# Altium footprint library VESC_BMS.PcbLib: 78 footprints (part 3 of 5)
Each footprint in its own frame and in the unit in brackets; x right, y up, seen from the top. Pads: shape width x height; smd on the part's side, far side on the other; paste and mask are expansions set on the pad; w line width, h text height; cw(c..) or ccw(c..) is an arc to the next point about the centre after c.
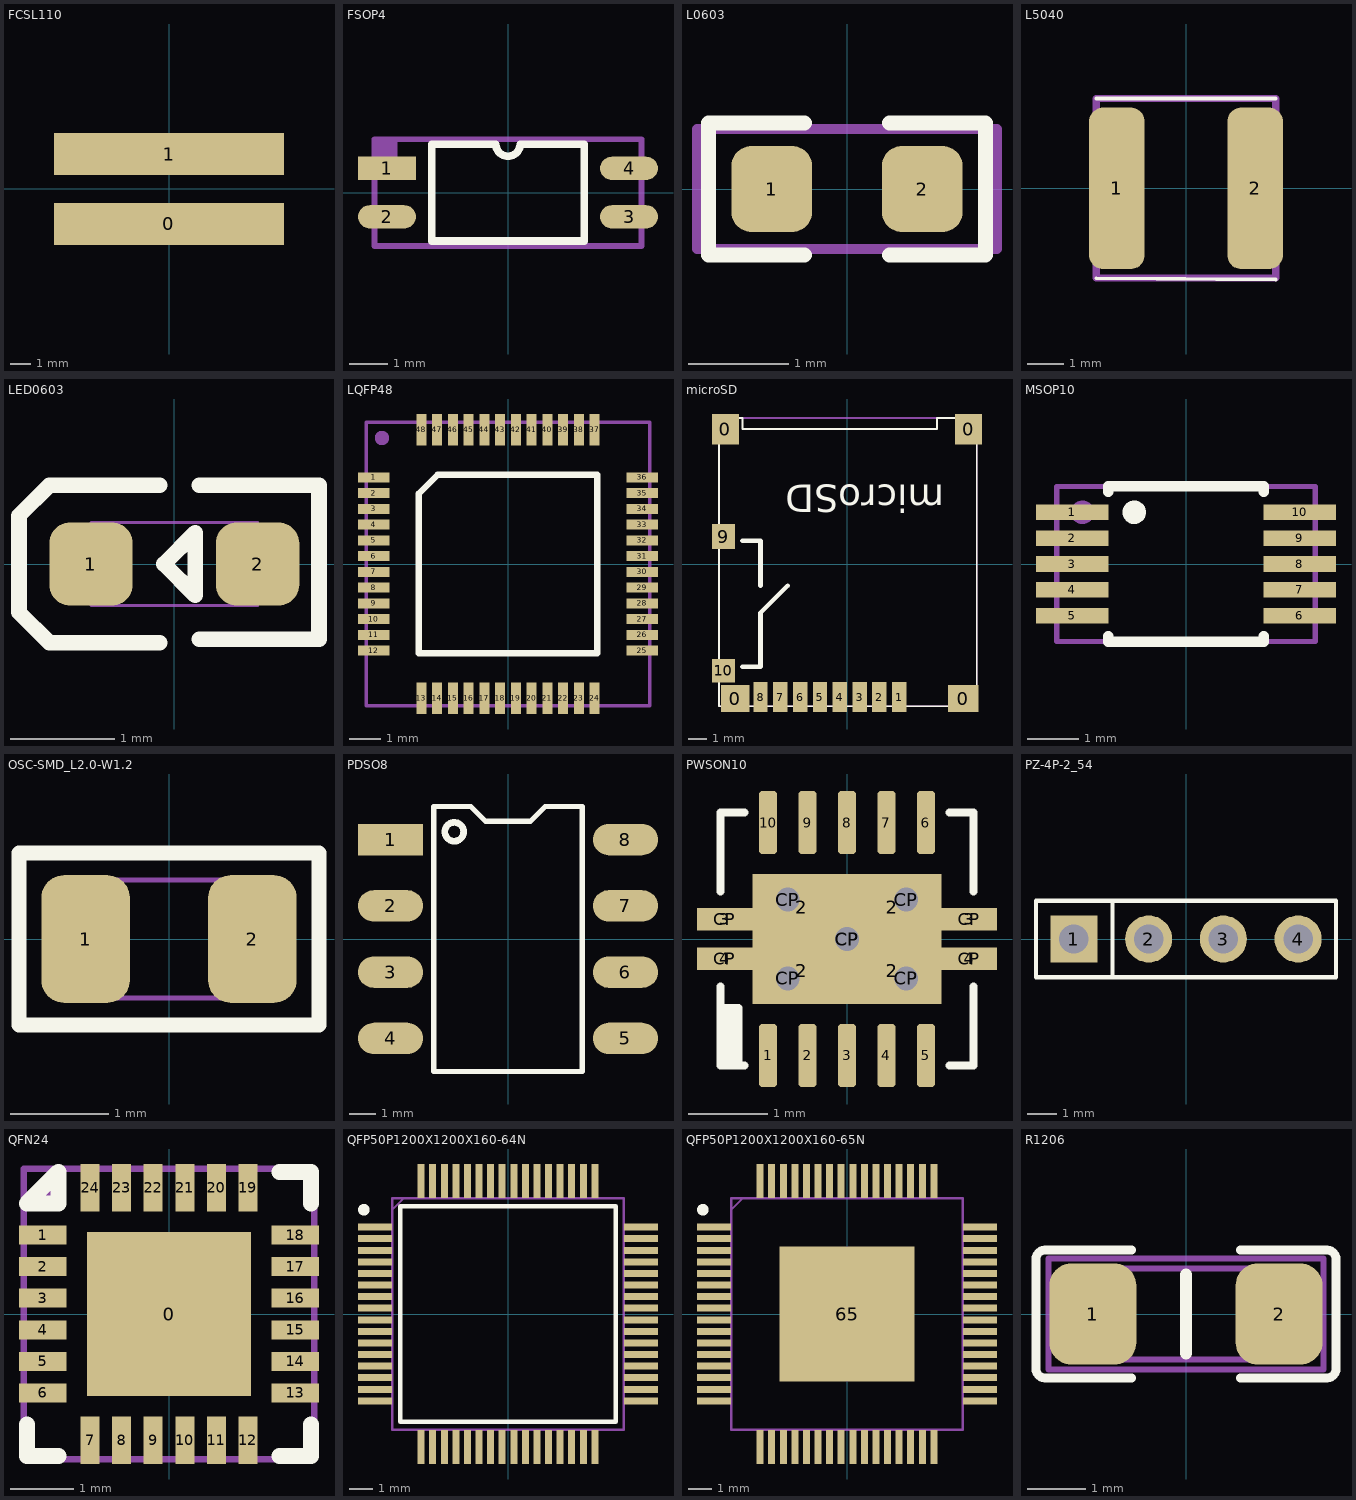
[diagram p2: the footprints below, top view; thin cyan lines are the x and y axes]

## FCSL110 [mm] "Current shunt"
height 0.5
pads (2):
  rect 11.2x2.05 smd: 0(0,-1.7) 1(0,1.7)
3D body: height 0.5, standoff 0, extent -5.4,-2.5 5.4,-1.5
3D body: height 0.5, standoff 0, extent -5.4,1.5 5.4,2.5
3D body: height 0.4, standoff 0.1, extent -5.5,-2.4 5.5,2.4

## FSOP4 [mm]
pads (4):
  rect 1.52x0.61 smd: 1(-3.175,0.635)
  oval 1.52x0.61 smd: 2(-3.175,-0.635) 3(3.175,-0.635) 4(3.175,0.635)
Top Overlay:
  lines w0.2: -2,-1.27 -2,1.27 -0.318,1.27 ccw(c0,1.27) 0.318,1.27 2,1.27 2,-1.27 -2,-1.27
Mechanical 29:
  rectangle: -3.5,0.8 -2.9,1.4
  lines w0.15: -3.5,-1.4 -3.5,1.4 3.5,1.4 3.5,-1.4 -3.5,-1.4
  text ".designator" at -3,-0.4 h1.52
3D body "User Library-SOP-4-1.step": height 2.1, standoff 0, extent -3.5,-1.4 3.5,1.4

## L0603 [mil]
height 53.15
pads (2):
  rrect50% 31.7x34 smd: 1(-29.6,0) 2(29.6,0)
Top Overlay:
  lines w5.9: -16.8,-26 -54.5,-26 -54.5,26 -16.8,26 ; 16.8,-26 54.5,-26 54.5,26 16.8,26
Mechanical 29:
  lines w3.94: -59.06,-23.62 59.06,-23.62 59.06,23.62 -59.06,23.62 -59.06,-23.62
  text ".Designator" at -55.12,-15.75 h31.5
3D body: height 17.72, standoff 0, extent -37.4,-17.72 -23.62,17.72
3D body: height 17.72, standoff 0, extent 23.62,-17.72 37.4,17.72
3D body: height 15.75, standoff 1.97, extent -35.43,-15.75 35.43,15.75
3D body: height 16.14, standoff 15.75, extent -10.24,-13.39 10.63,14.17

## L5040 [mm]
pads (2):
  rrect50% 1.55x4.5 smd: 1(-1.925,0) 2(1.925,0)
Top Overlay:
  lines w0.1: -2.5,-2.5 2.5,-2.54 ; -2.5,2.5 2.5,2.5
Mechanical 1:
  lines w0.2: -2.5,-2.5 2.5,-2.5 2.5,2.5 -2.5,2.5 -2.5,-2.5
3D body "74404054221.stp": height 4.01, standoff 0.01, extent -2.5,-2.52 2.5,2.48

## LED0603 [mil] "LED0603"
pads (2):
  rrect50% 31.5x31.5 smd: 1(-31.5,0) 2(31.5,0)
Top Overlay:
  lines w5.9: -5.5,-29.8 -47.2,-29.8 -58.7,-18.3 -58.7,18.3 -47.2,29.8 -5.5,29.8 ; 9.4,-28.5 54.7,-28.5 54.7,29.8 9.4,29.8 ; -3.9,0 7.9,-11.8 7.9,11.8 -3.9,0
Mechanical 1:
  lines w1: -31.5,-15.7 -31.5,15.7 31.5,15.7 31.5,-15.7 -31.5,-15.7
3D body "0603 Chip SMD LED (1.6x0.8mm).STEP": height 21.65, standoff -0.98, extent -31.5,-15.75 31.5,15.75

## LQFP48 [mm]
pads (48):
  rect 1x0.32 smd: 1(-4.26,2.75) 2(-4.26,2.25) 3(-4.26,1.75) 4(-4.26,1.25) 5(-4.26,0.75) 6(-4.26,0.25) 7(-4.26,-0.25) 8(-4.26,-0.75) 9(-4.26,-1.25) 10(-4.26,-1.75) 11(-4.26,-2.25) 12(-4.26,-2.75) 25(4.26,-2.75) 26(4.26,-2.25) 27(4.26,-1.75) 28(4.26,-1.25) 29(4.26,-0.75) 30(4.26,-0.25) 31(4.26,0.25) 32(4.26,0.75) 33(4.26,1.25) 34(4.26,1.75) 35(4.26,2.25) 36(4.26,2.75)
  rect 0.32x1 smd: 13(-2.75,-4.26) 14(-2.25,-4.26) 15(-1.75,-4.26) 16(-1.25,-4.26) 17(-0.75,-4.26) 18(-0.25,-4.26) 19(0.25,-4.26) 20(0.75,-4.26) 21(1.25,-4.26) 22(1.75,-4.26) 23(2.25,-4.26) 24(2.75,-4.26) 37(2.75,4.26) 38(2.25,4.26) 39(1.75,4.26) 40(1.25,4.26) 41(0.75,4.26) 42(0.25,4.26) 43(-0.25,4.26) 44(-0.75,4.26) 45(-1.25,4.26) 46(-1.75,4.26) 47(-2.25,4.26) 48(-2.75,4.26)
Top Overlay:
  lines w0.2: -2.83,-2.83 2.83,-2.83 2.83,2.83 -2.235,2.83 -2.83,2.235 -2.83,-2.83
Mechanical 29:
  circle w0.254: c-4,4 r0.1
  lines w0.1: -4.5,-4.5 4.5,-4.5 4.5,4.5 -4.5,4.5 -4.5,-4.5
  text ".Designator" at -1.7,-0.4 h0.8
3D body "User Library-LQFP48.step": height 1.52, standoff 0.02, extent -4.5,-4.5 4.5,4.5

## microSD [mm]
pads (14):
  rect 1.5x1.7 smd: 0(-6.75,7.475) 0(6.75,7.475)
  rect 1.6x1.5 smd: 0(-6.2,-7.475)
  rect 1.7x1.5 smd: 0(6.45,-7.475)
  rect 0.8x1.68 smd: 1(2.9,-7.385) 2(1.8,-7.385) 3(0.7,-7.385) 4(-0.4,-7.385) 5(-1.5,-7.385) 6(-2.6,-7.385) 7(-3.7,-7.385) 8(-4.8,-7.385)
  rect 1.29x1.4 smd: 9(-6.855,1.525)
  rect 1.29x1.3 smd: 10(-6.855,-5.925)
Top Overlay:
  lines w0.1: -7.1,-7.9 -7.1,8.1 -5.8,8.1 -5.8,7.5 5,7.5 5,8.1 7.2,8.1 7.2,-7.9 -7.1,-7.9
  lines w0.254: -5.8,-5.7 -4.8,-5.7 -4.8,-5.2 -4.8,-2.7 ; -5.8,1.3 -4.8,1.3 -4.8,-1.2 ; -3.3,-1.2 -4.8,-2.7 ; -4.8,-2.7 -4.8,-2.7
  text "microSD" at 5.4,4.4 h1.52
Mechanical 29:
  lines w0.1: -7.1,-7.9 -7.1,8.1 7.2,8.1 7.2,-7.9 -7.1,-7.9
  text ".Designator" at -2.9,0.2 h0.8
3D body "5027740891.stp": height 1.81, standoff 0.01, extent -7.105,-7.915 7.195,8.085

## MSOP10 [mm] "Mini small outline package"
pads (10):
  rect 1.4x0.3 smd: 1(-2.2,1) 2(-2.2,0.5) 3(-2.2,0) 4(-2.2,-0.5) 5(-2.2,-1) 6(2.2,-1) 7(2.2,-0.5) 8(2.2,0) 9(2.2,0.5) 10(2.2,1)
Top Overlay:
  circle w0.254: c-1,1 r0.1
  lines w0.2: -1.5,-1.4 -1.5,-1.5 1.5,-1.5 1.5,-1.4 ; -1.5,1.4 -1.5,1.5 1.5,1.5 1.5,1.4
Mechanical 29:
  circle w0.254: c-2,1 r0.1
  lines w0.1: -2.5,-1.5 -2.5,1.5 2.5,1.5 2.5,-1.5 -2.5,-1.5
  text ".Designator" at -2.25,-0.25 h0.8
3D body "User Library-msop-10.step": height 1.15, standoff 0, extent -2.45,-1.5 2.45,1.5

## OSC-SMD_L2.0-W1.2 [mm]
pads (2):
  rrect50% 0.9x1.3 smd: 1(-0.85,0) 2(0.85,0)
Top Overlay:
  lines w0.152: -1.529,-0.879 1.529,-0.879 1.529,0.879 -1.529,0.879 -1.529,-0.879
Mechanical 13:
  region: 0.5,-0.55 0.5,0.55 1,0.55 1,-0.55
  region: -0.5,-0.55 -0.5,0.55 -1,0.55 -1,-0.55
  lines w0.051: -1,-0.6 1,-0.6 1,0.6 -1,0.6 -1,-0.6
3D body "OSC-SMD_L2.0-W1.2.step": height 0.61, standoff 0, extent -1,-0.6 1,0.6

## PDSO8 [mm]
pads (8):
  rect 2.5x1.2 smd: 1(-4.5,3.81)
  oval 2.5x1.2 smd: 2(-4.5,1.27) 3(-4.5,-1.27) 4(-4.5,-3.81) 5(4.5,-3.81) 6(4.5,-1.27) 7(4.5,1.27) 8(4.5,3.81)
Top Overlay:
  circle w0.254: c-2.061,4.11 r0.361
  lines w0.2: -2.85,-5.08 -2.85,5.08 -1.425,5.08 -0.855,4.51 0.855,4.51 1.425,5.08 2.85,5.08 2.85,-5.08 -2.85,-5.08
3D body "User Library-8-pin-DIP_GW_HCPL-4200-300E.step": height 4.33, standoff 0, extent -4.95,-4.89 4.95,5.01

## PWSON10 [mm]
pads (28):
  rrect40% 0.23x0.8 smd: 1(-1,-1.475) 2(-0.5,-1.475) 3(0,-1.475) 4(0.5,-1.475) 5(1,-1.475) 6(1,1.475) 7(0.5,1.475) 8(0,1.475) 9(-0.5,1.475) 10(-1,1.475)
  rrect50% 1.05x0.68 on Top Paste: 2(-0.575,-0.4) 2(-0.575,0.4) 2(0.575,-0.4) 2(0.575,0.4)
  rrect50% 0.5x0.26 on Top Paste: 3(-1.55,0.25) 3(1.55,0.25) 4(-1.55,-0.25) 4(1.55,-0.25)
  rect 0.7x0.28 smd paste-2: CP(-1.55,-0.25) CP(-1.55,0.25) CP(1.55,-0.25) CP(1.55,0.25)
  round 0.5 hole 0.3 mask+0.102: CP(-0.75,-0.5) CP(-0.75,0.5) CP(0,0) CP(0.75,-0.5) CP(0.75,0.5)
  rect 2.4x1.65 smd paste-2: CP(0,0)
Top Overlay:
  lines w0.1: -1.6,-0.875 -1.375,-0.875 -1.375,-1.6 -1.45,-1.6 -1.45,-0.875 -1.525,-0.875 -1.525,-1.6 ; -1.6,-0.6 -1.6,-1.6 -1.3,-1.6 ; -1.6,0.6 -1.6,1.6 -1.3,1.6 ; 1.3,-1.6 1.6,-1.6 1.6,-0.6 ; 1.3,1.6 1.6,1.6 1.6,0.6
3D body: height 0.6, standoff 0, extent -1.6,-1.6 1.6,1.6

## PZ-4P-2_54 [mm] "PZ-4P-2_54"
pads (4):
  rect 1.6x1.6 hole 1: 1(-3.81,0)
  round 1.6 hole 1: 2(-1.27,0) 3(1.27,0) 4(3.81,0)
Top Overlay:
  lines w0.15: -2.5,-1.3 -2.5,1.3 ; -5.1,-1.3 -5.1,1.3 5.1,1.3 5.1,-1.3 -5.1,-1.3
Mechanical 1:
  lines w0.025: -5.08,-1.27 -5.08,1.27 5.08,1.27 5.08,-1.27 -5.08,-1.27
3D body "dNjH-H1.step": height 8.54, standoff -3, extent -5.08,-1.33 5.09,1.33

## QFN24 [mm]
height 0.9
pads (25):
  rect 2.6x2.6 smd paste-10: 0(0,0)
  rect 0.75x0.3 smd: 1(-2,1.25) 2(-2,0.75) 3(-2,0.25) 4(-2,-0.25) 5(-2,-0.75) 6(-2,-1.25) 13(2,-1.25) 14(2,-0.75) 15(2,-0.25) 16(2,0.25) 17(2,0.75) 18(2,1.25)
  rect 0.3x0.75 smd: 7(-1.25,-2) 8(-0.75,-2) 9(-0.25,-2) 10(0.25,-2) 11(0.75,-2) 12(1.25,-2) 19(1.25,2) 20(0.75,2) 21(0.25,2) 22(-0.25,2) 23(-0.75,2) 24(-1.25,2)
Top Overlay:
  lines w0.254: -2.25,-1.75 -2.25,-2.25 -1.75,-2.25 ; 1.75,-2.25 2.25,-2.25 2.25,-1.75 ; 1.75,2.25 2.25,2.25 2.25,1.75 ; -2.25,1.75 -1.75,2.25 -1.75,1.75 -2.25,1.75
Top Paste:
  rectangle: -1,-1 1,1
Mechanical 29:
  circle w0.254: c-1.9,1.9 r0.1
  lines w0.1: -2.3,-2.3 -2.3,2.3 2.3,2.3 2.3,-2.3 -2.3,-2.3
  text ".Designator" at -1.9,-0.3 h0.8
3D body "QFN24(4X4).STEP": height 0.9, standoff 0, extent -2.01,-2.01 2.01,2.01

## QFP50P1200X1200X160-64N [mm]
pads (64):
  rect 1.475x0.3 smd: 1(-5.738,3.75) 2(-5.738,3.25) 3(-5.738,2.75) 4(-5.738,2.25) 5(-5.738,1.75) 6(-5.738,1.25) 7(-5.738,0.75) 8(-5.738,0.25) 9(-5.738,-0.25) 10(-5.738,-0.75) 11(-5.738,-1.25) 12(-5.738,-1.75) 13(-5.738,-2.25) 14(-5.738,-2.75) 15(-5.738,-3.25) 16(-5.738,-3.75) 33(5.738,-3.75) 34(5.738,-3.25) 35(5.738,-2.75) 36(5.738,-2.25) 37(5.738,-1.75) 38(5.738,-1.25) 39(5.738,-0.75) 40(5.738,-0.25) 41(5.738,0.25) 42(5.738,0.75) 43(5.738,1.25) 44(5.738,1.75) 45(5.738,2.25) 46(5.738,2.75) 47(5.738,3.25) 48(5.738,3.75)
  rect 0.3x1.475 smd: 17(-3.75,-5.738) 18(-3.25,-5.738) 19(-2.75,-5.738) 20(-2.25,-5.738) 21(-1.75,-5.738) 22(-1.25,-5.738) 23(-0.75,-5.738) 24(-0.25,-5.738) 25(0.25,-5.738) 26(0.75,-5.738) 27(1.25,-5.738) 28(1.75,-5.738) 29(2.25,-5.738) 30(2.75,-5.738) 31(3.25,-5.738) 32(3.75,-5.738) 49(3.75,5.738) 50(3.25,5.738) 51(2.75,5.738) 52(2.25,5.738) 53(1.75,5.738) 54(1.25,5.738) 55(0.75,5.738) 56(0.25,5.738) 57(-0.25,5.738) 58(-0.75,5.738) 59(-1.25,5.738) 60(-1.75,5.738) 61(-2.25,5.738) 62(-2.75,5.738) 63(-3.25,5.738) 64(-3.75,5.738)
Top Overlay:
  circle w0.25: c-6.225,4.5 r0.125
  lines w0.2: -4.65,-4.65 -4.65,4.65 4.65,4.65 4.65,-4.65 -4.65,-4.65
Mechanical 1:
  lines w0.1: -5,4.5 -4.5,5 ; -5,-5 -5,5 5,5 5,-5 -5,-5
3D body "STM32F405RGT6.stp": height 1.31, standoff -0.12, extent -6.004,-6.001 5.997,5.999

## QFP50P1200X1200X160-65N [mm]
pads (65):
  rect 1.475x0.3 smd: 1(-5.738,3.75) 2(-5.738,3.25) 3(-5.738,2.75) 4(-5.738,2.25) 5(-5.738,1.75) 6(-5.738,1.25) 7(-5.738,0.75) 8(-5.738,0.25) 9(-5.738,-0.25) 10(-5.738,-0.75) 11(-5.738,-1.25) 12(-5.738,-1.75) 13(-5.738,-2.25) 14(-5.738,-2.75) 15(-5.738,-3.25) 16(-5.738,-3.75) 33(5.738,-3.75) 34(5.738,-3.25) 35(5.738,-2.75) 36(5.738,-2.25) 37(5.738,-1.75) 38(5.738,-1.25) 39(5.738,-0.75) 40(5.738,-0.25) 41(5.738,0.25) 42(5.738,0.75) 43(5.738,1.25) 44(5.738,1.75) 45(5.738,2.25) 46(5.738,2.75) 47(5.738,3.25) 48(5.738,3.75)
  rect 0.3x1.475 smd: 17(-3.75,-5.738) 18(-3.25,-5.738) 19(-2.75,-5.738) 20(-2.25,-5.738) 21(-1.75,-5.738) 22(-1.25,-5.738) 23(-0.75,-5.738) 24(-0.25,-5.738) 25(0.25,-5.738) 26(0.75,-5.738) 27(1.25,-5.738) 28(1.75,-5.738) 29(2.25,-5.738) 30(2.75,-5.738) 31(3.25,-5.738) 32(3.75,-5.738) 49(3.75,5.738) 50(3.25,5.738) 51(2.75,5.738) 52(2.25,5.738) 53(1.75,5.738) 54(1.25,5.738) 55(0.75,5.738) 56(0.25,5.738) 57(-0.25,5.738) 58(-0.75,5.738) 59(-1.25,5.738) 60(-1.75,5.738) 61(-2.25,5.738) 62(-2.75,5.738) 63(-3.25,5.738) 64(-3.75,5.738)
  rect 5.84x5.84 smd: 65(0,0)
Top Overlay:
  circle w0.25: c-6.225,4.5 r0.125
Mechanical 1:
  lines w0.1: -5,4.5 -4.5,5 ; -5,-5 5,-5 5,5 -5,5 -5,-5
3D body "LTC6813HLWE-1#3ZZPBF.stp": height 1.6, standoff 0, extent -6,-6 6,6

## R1206 [mil]
pads (2):
  rrect50% 58.5x68 smd: 1(-62.7,0) 2(62.6,0)
Top Overlay:
  lines w5.9: -36.5,-43 -94.9,-43 cw(c-94.9,-37) -100.9,-37 -100.9,37 cw(c-94.9,37) -94.9,43 -36.5,43 ; 36.5,-43 94.9,-43 ccw(c94.9,-37) 100.9,-37 100.9,37 ccw(c94.9,37) 94.9,43 36.5,43
  lines w7.87: 0,-26.57 0,26.57
Mechanical 13:
  lines w3.94: -60.04,-30.51 60.04,-30.51 60.04,30.51 -60.04,30.51 -60.04,-30.51
Mechanical 29:
  lines w3.94: -92.52,-37.4 92.52,-37.4 92.52,37.4 -92.52,37.4 -92.52,-37.4
  text ".Designator" at -92.52,-25.59 h47.24
3D body "RQ73C2B10RBTDF.stp": height 25.59, standoff 0, extent -60.04,-30.51 60.04,30.51